# Altium footprint library diy-modules.PCBLIB: 111 footprints (part 4 of 7)
Each footprint in its own frame and in the unit in brackets; x right, y up, seen from the top. Pads: shape width x height; smd on the part's side, far side on the other; paste and mask are expansions set on the pad; w line width, h text height; cw(c..) or ccw(c..) is an arc to the next point about the centre after c.
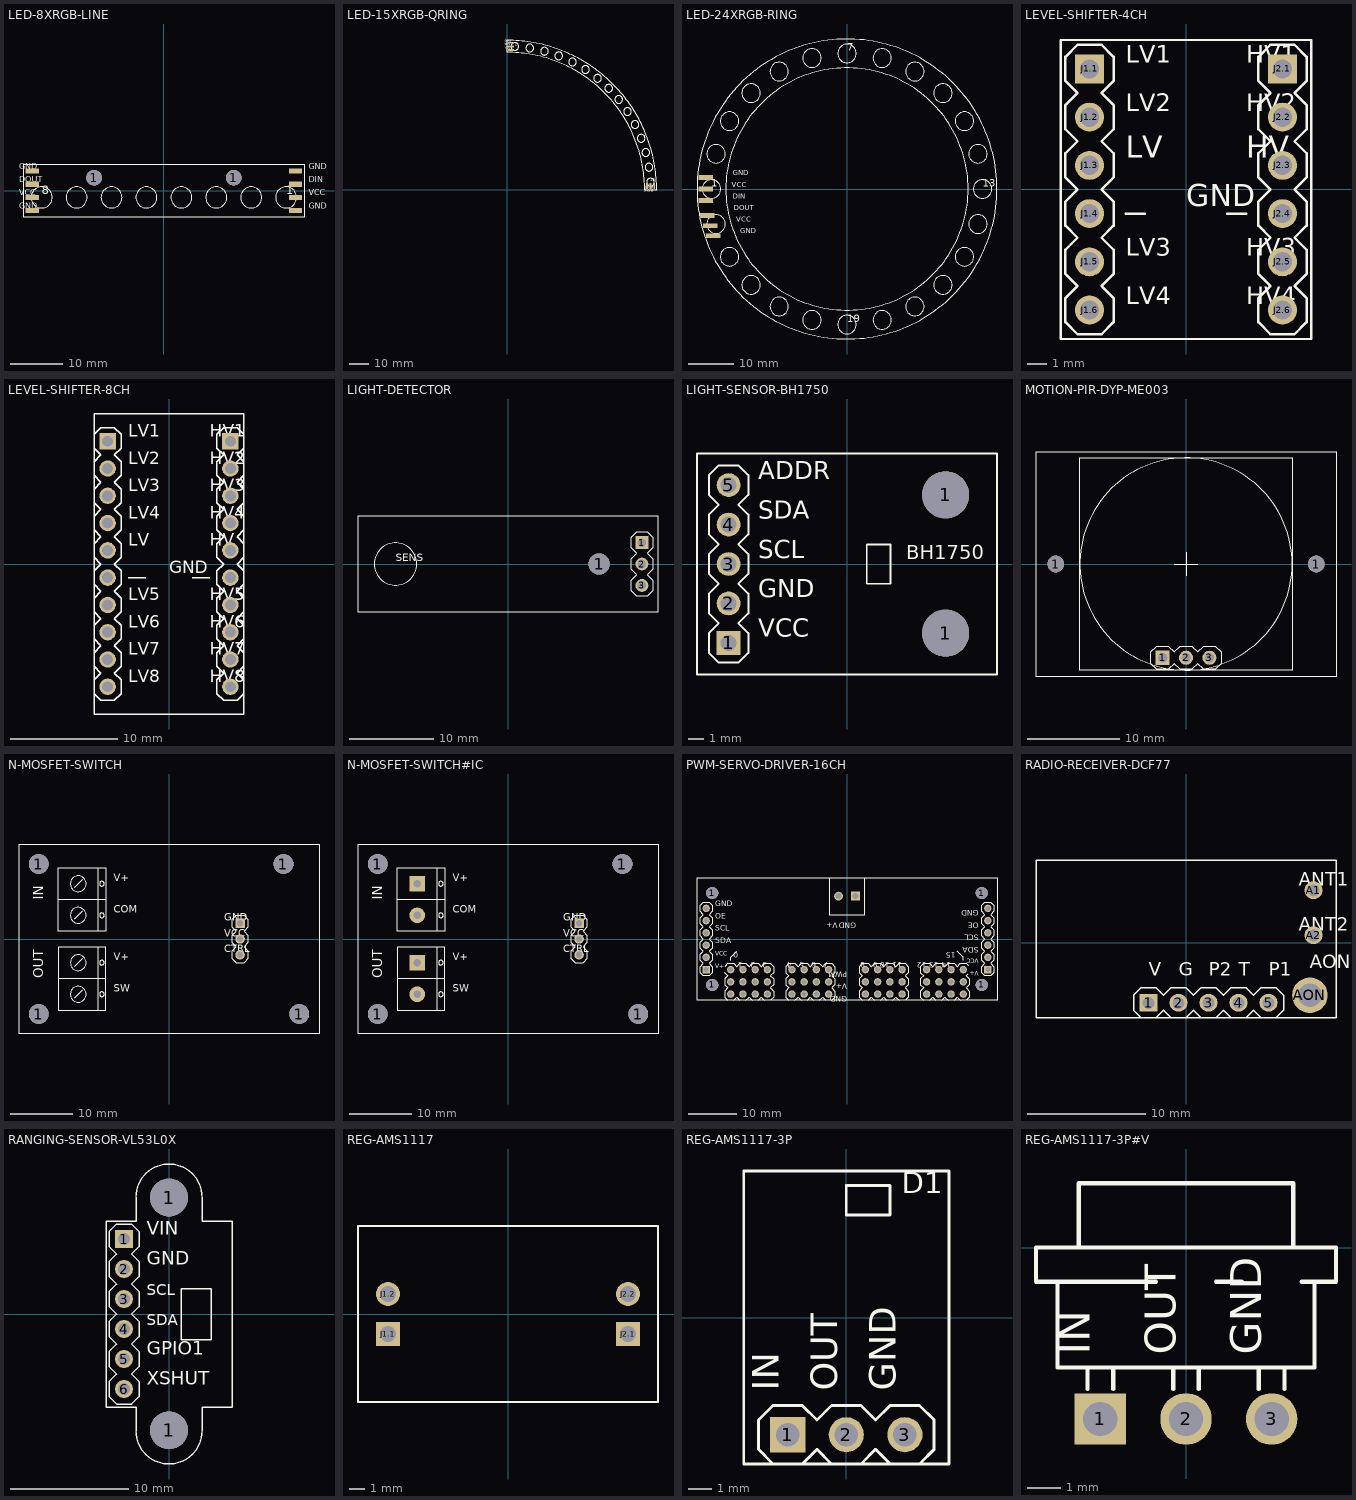
[diagram p3: the footprints below, top view; thin cyan lines are the x and y axes]

## LED-8XRGB-LINE [mil]
pads (10):
  round 119 hole 119: 1(-530,100) 1(530,100)
  rect 100x40 smd: A.1(-1000,150) A.2(-1000,50) A.3(-1000,-50) A.4(-1000,-150) B.1(1000,150) B.2(1000,50) B.3(1000,-50) B.4(1000,-150)
Top Overlay:
  circle w5: c-927.5,-50 r80
  circle w5: c-662.5,-50 r80
  circle w5: c-397.5,-50 r80
  circle w5: c-132.5,-50 r80
  circle w5: c133,-50 r80
  circle w5: c398,-50 r80
  circle w5: c663,-50 r80
  circle w5: c928,-50 r80
  lines w5: -1065,-200 1065,-200 1065,200 -1065,200 -1065,-200
  text "GND" at -1100,150 h77.5
  text "1" at 928,-50 h108.5
  text "DOUT" at -1100,50 h77.5
  text "VCC" at -1100,-50 h77.5
  text "GND" at -1100,-150 h77.5
  text "GND" at 1100,150 h77.5
  text "DIN" at 1100,50 h77.5
  text "VCC" at 1100,-50 h77.5
  text "GND" at 1100,-150 h77.5
  text "8" at -927.5,-50 h108.5

## LED-15XRGB-QRING [mil]
pads (6):
  rect 125x40 smd: 1(75,3050) 2(75,2975) 3(75,2900)
  rect 40x125 smd: 4(3050,75) 5(2975,75) 6(2900,75)
Top Overlay:
  circle w5: c156,2971 r80
  circle w5: c466,2939 r80
  circle w5: c770,2874 r80
  circle w5: c1067,2778 r80
  circle w5: c1351,2651 r80
  circle w5: c1621,2495 r80
  circle w5: c1873,2312 r80
  circle w5: c2104,2104 r80
  circle w5: c2312,1873 r80
  circle w5: c2495,1621 r80
  circle w5: c2651,1351 r80
  circle w5: c2778,1067 r80
  circle w5: c2874,770 r80
  circle w5: c2939,466 r80
  circle w5: c2971,156 r80
  lines w5: 0,2850 0,3100 cw(c0,0) 3100,0 2850,0 ccw(c0,0) 0,2850
  text "1" at 156,2971 h108.5
  text "GND" at -50,3050 h77.5
  text "DIN" at -50,2975 h77.5
  text "VCC" at -50,2900 h77.5
  text "GND" at 3050,-50 h77.5
  text "DOUT" at 2975,-50 h77.5
  text "VCC" at 2900,-50 h77.5
  text "15" at 2971,156 h108.5

## LED-24XRGB-RING [mil]
pads (6):
  rect 125x40 smd: 1(-1225,100) 2(-1225,0) 3(-1225,-100) 4(-1210,-230) 5(-1185,-320) 6(-1160,-405)
Top Overlay:
  circle w5: c0,0 r1050
  circle w5: c0,0 r1300
  circle w5: c-1175,0 r80
  circle w5: c1175,0 r80
  circle w5: c0,1175 r80
  circle w5: c0,-1175 r80
  circle w5: c-1135,305 r80
  circle w5: c-1017.6,588 r80
  circle w5: c-830.9,831 r80
  circle w5: c-587.5,1018 r80
  circle w5: c305,1135 r80
  circle w5: c-304.1,1135 r80
  circle w5: c588,1018 r80
  circle w5: c831,831 r80
  circle w5: c1018,588 r80
  circle w5: c1135,305 r80
  circle w5: c1135,-304.1 r80
  circle w5: c1018,-587.5 r80
  circle w5: c831,-830.9 r80
  circle w5: c588,-1017.6 r80
  circle w5: c305,-1135 r80
  circle w5: c-304.1,-1135 r80
  circle w5: c-830.9,-830.9 r80
  circle w5: c-587.5,-1017.6 r80
  circle w5: c-1017.6,-587.5 r80
  circle w5: c-1135,-304.1 r80
  text "1" at -1175,0 h108.5
  text "VCC" at -1000,0 h77.5
  text "GND" at -990,100 h77.5
  text "DIN" at -990,-100 h77.5
  text "DOUT" at -980,-200 h77.5
  text "VCC" at -960,-300 h77.5
  text "GND" at -925,-400 h77.5
  text "7" at 0,1175 h108.5
  text "13" at 1175,0 h108.5
  text "19" at 0,-1175 h108.5

## LEVEL-SHIFTER-4CH [mil]
pads (12):
  rect 60x60 hole 40: J1.1(-200,250) J2.1(200,250)
  round 60 hole 40: J1.2(-200,150) J1.3(-200,50) J1.4(-200,-50) J1.5(-200,-150) J1.6(-200,-250) J2.2(200,150) J2.3(200,50) J2.4(200,-50) J2.5(200,-150) J2.6(200,-250)
Top Overlay:
  lines w5: -125,-50 -85,-50 ; 85,-50 125,-50 ; -260,-310 260,-310 260,310 -260,310 -260,-310 ; -250,-275 -225,-300 -175,-300 -150,-275 -150,-225 -175,-200 -150,-175 -150,-125 -175,-100 -150,-75 -150,-25 -175,0 -150,25 -150,75 -175,100 -150,125 -150,175 -175,200 -150,225 -150,275 -175,300 -225,300 -250,275 -250,225 -225,200 -250,175 -250,125 -225,100 -250,75 -250,25 -225,0 -250,-25 -250,-75 -225,-100 -250,-125 -250,-175 -225,-200 -250,-225 -250,-275 ; 150,-275 150,-225 175,-200 150,-175 150,-125 175,-100 150,-75 150,-25 175,0 150,25 150,75 175,100 150,125 150,175 175,200 150,225 150,275 175,300 225,300 250,275 250,225 225,200 250,175 250,125 225,100 250,75 250,25 225,0 250,-25 250,-75 225,-100 250,-125 250,-175 225,-200 250,-225 250,-275 225,-300 175,-300 150,-275
  text "HV1" at 125,250 h62
  text "HV2" at 125,150 h62
  text "HV" at 125,50 h77.5
  text "GND" at 0,-50 h77.5
  text "HV3" at 125,-150 h62
  text "HV4" at 125,-250 h62
  text "LV1" at -125,250 h62
  text "LV2" at -125,150 h62
  text "LV" at -125,50 h77.5
  text "LV3" at -125,-150 h62
  text "LV4" at -125,-250 h62

## LEVEL-SHIFTER-8CH [mil]
pads (20):
  rect 60x60 hole 40: J1.1(-225,450) J2.1(225,450)
  round 60 hole 40: J1.2(-225,350) J1.3(-225,250) J1.4(-225,150) J1.5(-225,50) J1.6(-225,-50) J1.7(-225,-150) J1.8(-225,-250) J1.9(-225,-350) J1.10(-225,-450) J2.2(225,350) J2.3(225,250) J2.4(225,150) J2.5(225,50) J2.6(225,-50) J2.7(225,-150) J2.8(225,-250) J2.9(225,-350) J2.10(225,-450)
Top Overlay:
  lines w5: -275,-475 -250,-500 -200,-500 -175,-475 -175,-425 -200,-400 -175,-375 -175,-325 -200,-300 -175,-275 -175,-225 -200,-200 -175,-175 -175,-125 -200,-100 -175,-75 -175,-25 -200,0 -175,25 -175,75 -200,100 -175,125 -175,175 -200,200 -175,225 -175,275 -200,300 -175,325 -175,375 -200,400 -175,425 -175,475 -200,500 -250,500 -275,475 ; -275,-425 -250,-400 -275,-375 ; -275,-325 -250,-300 -275,-275 ; -275,-225 -250,-200 -275,-175 ; -275,-125 -250,-100 -275,-75 ; -275,-25 -250,0 -275,25 ; -275,75 -250,100 -275,125 ; -275,175 -250,200 -275,225 ; -275,275 -250,300 -275,325 ; -275,375 -250,400 -275,425 ; -150,-50 -85,-50 ; 85,-50 150,-50 ; 275,-475 250,-500 200,-500 175,-475 175,-425 200,-400 175,-375 175,-325 200,-300 175,-275 175,-225 200,-200 175,-175 175,-125 200,-100 175,-75 175,-25 200,0 175,25 175,75 200,100 175,125 175,175 200,200 175,225 175,275 200,300 175,325 175,375 200,400 175,425 175,475 200,500 250,500 275,475 ; 275,-425 250,-400 275,-375 ; 275,-325 250,-300 275,-275 ; 275,-225 250,-200 275,-175 ; 275,-125 250,-100 275,-75 ; 275,-25 250,0 275,25 ; 275,75 250,100 275,125 ; 275,175 250,200 275,225 275,275 250,300 275,325 275,375 250,400 275,425 ; -275,-550 275,-550 275,550 -275,550 -275,-550
  text "HV1" at 150,450 h77.5
  text "HV2" at 150,350 h77.5
  text "HV" at 150,50 h77.5
  text "GND" at 0,-50 h77.5
  text "HV3" at 150,250 h77.5
  text "HV4" at 150,150 h77.5
  text "LV1" at -150,450 h77.5
  text "LV2" at -150,350 h77.5
  text "LV" at -150,50 h77.5
  text "LV3" at -150,250 h77.5
  text "LV4" at -150,150 h77.5
  text "LV5" at -150,-150 h77.5
  text "LV6" at -150,-250 h77.5
  text "LV7" at -150,-350 h77.5
  text "LV8" at -150,-450 h77.5
  text "HV5" at 150,-150 h77.5
  text "HV6" at 150,-250 h77.5
  text "HV7" at 150,-350 h77.5
  text "HV8" at 150,-450 h77.5

## LIGHT-DETECTOR [mil]
pads (4):
  round 99 hole 99: 1(425,0)
  rect 60x60 hole 40: 1(625,100)
  round 60 hole 40: 2(625,0) 3(625,-100)
Top Overlay:
  circle w5: c-525,0 r99
  lines w5: -700,-225 700,-225 700,225 -700,225 -700,-225 ; 575,-125 600,-150 650,-150 675,-125 675,-75 650,-50 675,-25 675,25 650,50 675,75 675,125 650,150 600,150 575,125 575,75 600,50 575,25 575,-25 600,-50 575,-75 575,-125
  text "SENS" at -525,0 h62

## LIGHT-SENSOR-BH1750 [mil]
pads (7):
  rect 60x60 hole 40: 1(-300,-200)
  round 119 hole 119: 1(250,-175) 1(250,175)
  round 60 hole 40: 2(-300,-100) 3(-300,0) 4(-300,100) 5(-300,200)
Top Overlay:
  lines w5: -380,-280 380,-280 380,280 -380,280 -380,-280 ; -350,-225 -350,-175 -325,-150 -350,-125 -350,-75 -325,-50 -350,-25 -350,25 -325,50 -350,75 -350,125 -325,150 -350,175 -350,225 -325,250 -275,250 -250,225 -250,175 -275,150 -250,125 -250,75 -275,50 -250,25 -250,-25 -275,-50 -250,-75 -250,-125 -275,-150 -250,-175 -250,-225 -275,-250 -325,-250 -350,-225 ; 50,-50 110,-50 110,50 50,50 50,-50
  text "SCL" at -225,0 h77.5
  text "SDA" at -225,100 h77.5
  text "ADDR" at -225,200 h77.5
  text "GND" at -225,-100 h77.5
  text "VCC" at -225,-200 h77.5
  text "BH1750" at 150,0 h62

## MOTION-PIR-DYP-ME003 [mil]
pads (5):
  round 71 hole 71: 1(-555.12,0) 1(556,0)
  rect 60x60 hole 40: 1(-100,-400)
  round 60 hole 40: 2(0,-400) 3(100,-400)
Top Overlay:
  circle w5: c0,0 r453
  lines w5: -50,0 50,0 ; 0,-50 0,50 ; -640,-480 640,-480 640,480 -640,480 -640,-480 ; -452.76,-452.76 453,-452.76 453,453 -452.76,453 -452.76,-452.76 ; -150,-425 -125,-450 -75,-450 -50,-425 -25,-450 25,-450 50,-425 75,-450 125,-450 150,-425 150,-375 125,-350 75,-350 50,-375 25,-350 -25,-350 -50,-375 -75,-350 -125,-350 -150,-375 -150,-425

## N-MOSFET-SWITCH [mil]
pads (7):
  round 126 hole 126: 1(-825,-475) 1(-825,475) 1(725,475) 1(825,-475)
  rect 60x60 hole 40: J1.1(450,100)
  round 60 hole 40: J1.2(450,0) J1.3(450,-100)
Top Overlay:
  circle w5: c-425,350 r15
  circle w5: c-425,150 r15
  circle w5: c-425,-150 r15
  circle w5: c-425,-350 r15
  circle w5: c-575,150 r50
  circle w5: c-575,350 r50
  circle w5: c-575,-150 r50
  circle w5: c-575,-350 r50
  lines w5: -600,-375 -550,-325 ; -600,-175 -550,-125 ; -600,125 -550,175 ; -600,325 -550,375 ; -700,-250 -700,-50 -450,-50 ; -700,-250 -400,-250 ; -700,-250 -700,-450 -450,-450 ; -700,250 -700,50 -450,50 ; -700,250 -700,450 -450,450 ; -700,250 -400,250 ; -450,-450 -400,-450 -400,-250 ; -450,-450 -450,-50 ; -450,-50 -400,-50 -400,-250 ; -450,50 -400,50 -400,250 ; -450,50 -450,450 ; -450,450 -400,450 -400,250 ; -950,-600 950,-600 950,600 -950,600 -950,-600 ; 400,-125 425,-150 475,-150 500,-125 500,-75 475,-50 500,-25 500,25 475,50 500,75 500,125 475,150 425,150 400,125 400,75 425,50 400,25 400,-25 425,-50 400,-75 400,-125
  text "V+" at -350,350 h77.5
  text "COM" at -350,150 h77.5
  text "V+" at -350,-150 h77.5
  text "SW" at -350,-350 h77.5
  text "IN" at -775,250 h108.5
  text "OUT" at -775,-250 h108.5
  text "GND" at 350,100 h77.5
  text "VCC" at 350,0 h77.5
  text "CTRL" at 350,-100 h77.5

## N-MOSFET-SWITCH#IC [mil]
pads (11):
  round 126 hole 126: 1(-825,-475) 1(-825,475) 1(725,475) 1(825,-475)
  rect 60x60 hole 40: J1.1(450,100)
  round 60 hole 40: J1.2(450,0) J1.3(450,-100)
  rect 99x99 hole 48: P1.1(-575,350) P2.1(-575,-150)
  round 99 hole 48: P1.2(-575,150) P2.2(-575,-350)
Top Overlay:
  circle w5: c-425,350 r15
  circle w5: c-425,150 r15
  circle w5: c-425,-150 r15
  circle w5: c-425,-350 r15
  lines w5: -700,-250 -700,-50 -450,-50 ; -700,-250 -400,-250 ; -700,-250 -700,-450 -450,-450 ; -700,250 -700,50 -450,50 ; -700,250 -700,450 -450,450 ; -700,250 -400,250 ; -450,-450 -400,-450 -400,-250 ; -450,-450 -450,-50 ; -450,-50 -400,-50 -400,-250 ; -450,50 -400,50 -400,250 ; -450,50 -450,450 ; -450,450 -400,450 -400,250 ; -950,-600 950,-600 950,600 -950,600 -950,-600 ; 400,-125 425,-150 475,-150 500,-125 500,-75 475,-50 500,-25 500,25 475,50 500,75 500,125 475,150 425,150 400,125 400,75 425,50 400,25 400,-25 425,-50 400,-75 400,-125
  text "V+" at -350,350 h77.5
  text "COM" at -350,150 h77.5
  text "V+" at -350,-150 h77.5
  text "SW" at -350,-350 h77.5
  text "IN" at -775,250 h108.5
  text "OUT" at -775,-250 h108.5
  text "GND" at 350,100 h77.5
  text "VCC" at 350,0 h77.5
  text "CTRL" at 350,-100 h77.5

## PWM-SERVO-DRIVER-16CH [mil]
pads (66):
  round 99 hole 99: 1(-1100,-375) 1(-1100,375) 1(1100,-375) 1(1100,375)
  round 60 hole 40: C0.1(-950,-250) C0.2(-950,-350) C0.3(-950,-450) C1.1(-850,-250) C1.2(-850,-350) C1.3(-850,-450) C2.1(-750,-250) C2.2(-750,-350) C2.3(-750,-450) C3.1(-650,-250) C3.2(-650,-350) C3.3(-650,-450) C4.1(-450,-250) C4.2(-450,-350) C4.3(-450,-450) C5.1(-350,-250) C5.2(-350,-350) C5.3(-350,-450) C6.1(-250,-250) C6.2(-250,-350) C6.3(-250,-450) C7.1(-150,-250) C7.2(-150,-350) C7.3(-150,-450) C8.1(150,-250) C8.2(150,-350) C8.3(150,-450) C9.1(250,-250) C9.2(250,-350) C9.3(250,-450) C10.1(350,-250) C10.2(350,-350) C10.3(350,-450) C11.1(450,-250) C11.2(450,-350) C11.3(450,-450) C12.1(650,-250) C12.2(650,-350) C12.3(650,-450) C13.1(750,-250) C13.2(750,-350) C13.3(750,-450) C14.1(850,-250) C14.2(850,-350) C14.3(850,-450) C15.1(950,-250) C15.2(950,-350) C15.3(950,-450) JP3.2(-1150,-150) JP3.3(-1150,-50) JP3.4(-1150,50) JP3.5(-1150,150) JP3.6(-1150,250) JP4.2(1150,-150) JP4.3(1150,-50) JP4.4(1150,50) JP4.5(1150,150) JP4.6(1150,250)
  rect 72x72 hole 48: J1.1(69,350)
  round 72 hole 48: J1.2(-69,350)
  rect 60x60 hole 40: JP3.1(-1150,-250) JP4.1(1150,-250)
Top Overlay:
  drawing of 255 lines, arcs and shapes, not listed
  text "GND" at -1075,250 h77.5
  text "OE" at -1075,150 h77.5
  text "SCL" at -1075,50 h77.5
  text "SDA" at -1075,-50 h77.5
  text "VCC" at -1075,-150 h62
  text "V+" at -1075,-250 h62
  text "GND" at 1075,250 h77.5
  text "OE" at 1075,150 h77.5
  text "SCL" at 1075,50 h77.5
  text "SDA" at 1075,-50 h77.5
  text "VCC" at 1075,-150 h62
  text "V+" at 1075,-250 h62
  text "PWM" at 0,-250 h77.5
  text "V+" at 0,-350 h77.5
  text "GND" at 0,-450 h77.5
  text "1" at -850,-175 h77.5
  text "2" at -750,-175 h77.5
  text "3" at -650,-175 h77.5
  text "4" at -450,-175 h77.5
  text "5" at -350,-175 h77.5
  text "6" at -250,-175 h77.5
  text "7" at -150,-175 h77.5
  text "8" at 150,-175 h77.5
  text "9" at 250,-175 h77.5
  text "10" at 350,-175 h77.5
  text "11" at 450,-175 h77.5
  text "12" at 650,-175 h77.5
  text "13" at 750,-175 h77.5
  text "14" at 850,-175 h77.5
  text "0" at -890,-90 h77.5
  text "15" at 890,-90 h77.5
  text "V+" at -75,150 h77.5
  text "GND" at 75,150 h77.5

## RADIO-RECEIVER-DCF77 [mil]
pads (8):
  rect 60x60 hole 40: 1(-125,-200)
  round 60 hole 40: 2(-25,-200) 3(75,-200) 4(175,-200) 5(275,-200) A1(425,175) A2(425,25)
  round 118.5 hole 79: AON(413,-175)
Top Overlay:
  lines w5: -150,-250 -100,-250 ; -150,-250 -500,-250 -500,275 500,275 500,-250 300,-250 ; -150,-250 -175,-225 -175,-175 -150,-150 -100,-150 -75,-175 -50,-150 0,-150 25,-175 50,-150 100,-150 125,-175 150,-150 200,-150 225,-175 250,-150 300,-150 325,-175 325,-225 300,-250 ; -100,-250 -50,-250 ; -100,-250 -75,-225 -50,-250 ; -50,-250 0,-250 ; 0,-250 50,-250 ; 0,-250 25,-225 50,-250 ; 50,-250 100,-250 ; 100,-250 150,-250 ; 100,-250 125,-225 150,-250 ; 150,-250 200,-250 ; 200,-250 250,-250 ; 200,-250 225,-225 250,-250 ; 250,-250 300,-250
  text "V" at -125,-125 h77.5
  text "G" at -25,-125 h77.5
  text "P2" at 75,-125 h77.5
  text "T" at 175,-125 h77.5
  text "P1" at 275,-125 h77.5
  text "ANT1" at 375,175 h77.5
  text "ANT2" at 375,25 h77.5
  text "AON" at 413,-100 h77.5

## RANGING-SENSOR-VL53L0X [mil]
pads (8):
  rect 60x60 hole 40: 1(-150,250)
  round 126 hole 126: 1(0,-387.8) 1(0,388)
  round 60 hole 40: 2(-150,150) 3(-150,50) 4(-150,-50) 5(-150,-150) 6(-150,-250)
Top Overlay:
  lines w5: -210,-310 -210,310 -110,310 -110,390 cw(c0,390) 110,390 110,310 210,310 210,-310 110,-310 110,-390 cw(c0,-390) -110,-390 -110,-310 -210,-310 ; -200,-275 -200,-225 -175,-200 -200,-175 -200,-125 -175,-100 -200,-75 -200,-25 -175,0 -200,25 -200,75 -175,100 -200,125 -200,175 -175,200 -200,225 -200,275 -175,300 -125,300 -100,275 -100,225 -125,200 -100,175 -100,125 -125,100 -100,75 -100,25 -125,0 -100,-25 -100,-75 -125,-100 -100,-125 -100,-175 -125,-200 -100,-225 -100,-275 -125,-300 -175,-300 -200,-275 ; 40,-85 40,85 140,85 140,-85 40,-85
  text "SCL" at -75,50 h62
  text "GND" at -75,150 h77.5
  text "VIN" at -75,250 h77.5
  text "SDA" at -75,-50 h62
  text "GPIO1" at -75,-150 h77.5
  text "XSHUT" at -75,-250 h77.5

## REG-AMS1117 [mil]
pads (4):
  rect 60x60 hole 40: J1.1(-300,-50) J2.1(300,-50)
  round 60 hole 40: J1.2(-300,50) J2.2(300,50)
Top Overlay:
  lines w5: -375,-220 375,-220 375,220 -375,220 -375,-220

## REG-AMS1117-3P [mil]
pads (3):
  rect 60x60 hole 40: 1(-100,-200)
  round 60 hole 40: 2(0,-200) 3(100,-200)
Top Overlay:
  lines w5: -125,-250 -150,-225 -150,-175 -125,-150 -75,-150 -50,-175 -25,-150 25,-150 50,-175 75,-150 125,-150 150,-175 150,-225 125,-250 ; -75,-250 -50,-225 -25,-250 ; 25,-250 50,-225 75,-250 ; -175,-250 175,-250 175,250 -175,250 -175,-250 ; 0,175 75,175 75,225 0,225 0,175
  text "GND" at 100,-125 h77.5
  text "OUT" at 0,-125 h77.5
  text "IN" at -100,-125 h77.5
  text "D1" at 95,200 h62

## REG-AMS1117-3P#V [mil]
pads (3):
  rect 60x60 hole 40: 1(-100,-200)
  round 60 hole 40: 2(0,-200) 3(100,-200)
Top Overlay:
  lines w5: -115,-165 -115,-140 ; -85,-165 -85,-140 ; -35,-40 -150,-40 ; -15,-165 -15,-140 ; 15,-165 15,-140 ; 35,-40 65,-40 ; 85,-165 85,-140 ; 115,-165 115,-140 ; 135,-40 150,-40 ; -150,-40 -175,-40 -175,0 -125,0 ; -150,-40 -150,-140 -115,-140 ; -125,0 125,0 ; -125,0 -125,75 125,75 125,0 ; -115,-140 -85,-140 ; -85,-140 -15,-140 ; -15,-140 15,-140 ; 15,-140 85,-140 ; 85,-140 115,-140 ; 115,-140 150,-140 150,-40 ; 125,0 175,0 175,-40 150,-40
  text "GND" at 100,-125 h62
  text "OUT" at 0,-125 h62
  text "IN" at -100,-125 h62